# Altium footprint library CONN_HDR_2.54MM_ST_SMD.PcbLib: 27 footprints (part 2 of 2)
Each footprint in its own frame and in the unit in brackets; x right, y up, seen from the top. Pads: shape width x height; smd on the part's side, far side on the other; paste and mask are expansions set on the pad; w line width, h text height; cw(c..) or ccw(c..) is an arc to the next point about the centre after c.
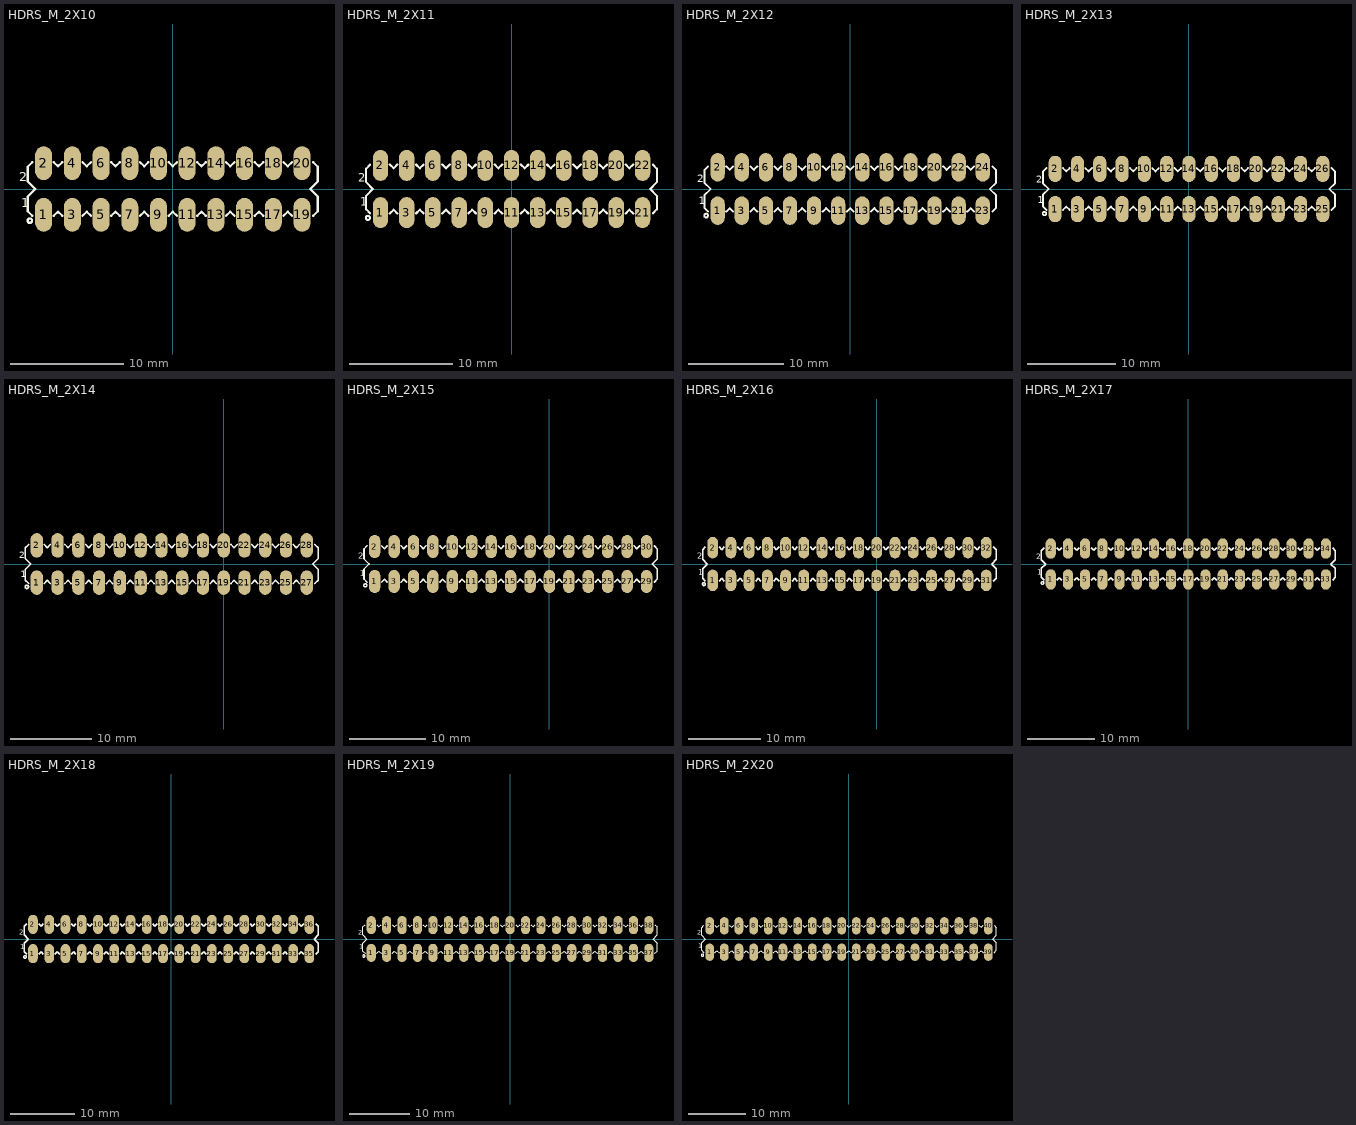
[diagram p1: the footprints below, top view; thin cyan lines are the x and y axes]

## HDRS_M_2X10 [mm] "HEADER, 2.54mm pitch, straight, SMD"
pads (20):
  oval 1.5x3 smd: 1(-11.43,-2.286) 2(-11.43,2.286) 3(-8.89,-2.286) 4(-8.89,2.286) 5(-6.35,-2.286) 6(-6.35,2.286) 7(-3.81,-2.286) 8(-3.81,2.286) 9(-1.27,-2.286) 10(-1.27,2.286) 11(1.27,-2.286) 12(1.27,2.286) 13(3.81,-2.286) 14(3.81,2.286) 15(6.35,-2.286) 16(6.35,2.286) 17(8.89,-2.286) 18(8.89,2.286) 19(11.43,-2.286) 20(11.43,2.286)
Top Overlay:
  circle w0.2: c-12.65,-2.8 r0.2
  lines w0.2: -12.427,-2.378 -12.827,-1.978 -12.827,-0.662 -12.165,0 -12.827,0.662 -12.827,1.978 -12.427,2.378 ; -10.533,-2.378 -10.16,-2.005 -9.787,-2.378 ; -10.533,2.378 -10.16,2.005 -9.787,2.378 ; -7.993,-2.378 -7.62,-2.005 -7.247,-2.378 ; -7.993,2.378 -7.62,2.005 -7.247,2.378 ; -5.453,-2.378 -5.08,-2.005 -4.707,-2.378 ; -5.453,2.378 -5.08,2.005 -4.707,2.378 ; -2.913,-2.378 -2.54,-2.005 -2.167,-2.378 ; -2.913,2.378 -2.54,2.005 -2.167,2.378 ; -0.373,-2.378 0,-2.005 0.373,-2.378 ; -0.373,2.378 0,2.005 0.373,2.378 ; 2.167,-2.378 2.54,-2.005 2.913,-2.378 ; 2.167,2.378 2.54,2.005 2.913,2.378 ; 4.707,-2.378 5.08,-2.005 5.453,-2.378 ; 4.707,2.378 5.08,2.005 5.453,2.378 ; 7.247,-2.378 7.62,-2.005 7.993,-2.378 ; 7.247,2.378 7.62,2.005 7.993,2.378 ; 9.787,-2.378 10.16,-2.005 10.533,-2.378 ; 9.787,2.378 10.16,2.005 10.533,2.378 ; 12.427,-2.378 12.827,-1.978 12.827,-0.662 12.165,0 12.827,0.662 12.827,1.978 12.427,2.378
  text "2" at -13.61,0.7 h0.8
  text "1" at -13.41,-1.6 h0.8
3D body "HEADER2X2SMD.stp": height 9.54, standoff -0.11, extent 0,-3.492 5.08,3.493
3D body "HEADER2X3SMD.stp": height 9.54, standoff -0.11, extent 5.08,-3.492 12.7,3.493
3D body "HEADER2X3SMD.stp": height 9.54, standoff -0.11, extent -7.62,-3.492 0,3.493
3D body "HEADER2X2SMD.stp": height 9.54, standoff -0.11, extent -12.7,-3.492 -7.62,3.493

## HDRS_M_2X11 [mm] "HEADER, 2.54mm pitch, straight, SMD"
pads (22):
  oval 1.5x3 smd: 1(-12.7,-2.286) 2(-12.7,2.286) 3(-10.16,-2.286) 4(-10.16,2.286) 5(-7.62,-2.286) 6(-7.62,2.286) 7(-5.08,-2.286) 8(-5.08,2.286) 9(-2.54,-2.286) 10(-2.54,2.286) 11(0,-2.286) 12(0,2.286) 13(2.54,-2.286) 14(2.54,2.286) 15(5.08,-2.286) 16(5.08,2.286) 17(7.62,-2.286) 18(7.62,2.286) 19(10.16,-2.286) 20(10.16,2.286) 21(12.7,-2.286) 22(12.7,2.286)
Top Overlay:
  circle w0.2: c-13.92,-2.8 r0.2
  lines w0.2: -13.697,-2.378 -14.097,-1.978 -14.097,-0.662 -13.435,0 -14.097,0.662 -14.097,1.978 -13.697,2.378 ; -11.803,-2.378 -11.43,-2.005 -11.057,-2.378 ; -11.803,2.378 -11.43,2.005 -11.057,2.378 ; -9.263,-2.378 -8.89,-2.005 -8.517,-2.378 ; -9.263,2.378 -8.89,2.005 -8.517,2.378 ; -6.723,-2.378 -6.35,-2.005 -5.977,-2.378 ; -6.723,2.378 -6.35,2.005 -5.977,2.378 ; -4.183,-2.378 -3.81,-2.005 -3.437,-2.378 ; -4.183,2.378 -3.81,2.005 -3.437,2.378 ; -1.643,-2.378 -1.27,-2.005 -0.897,-2.378 ; -1.643,2.378 -1.27,2.005 -0.897,2.378 ; 0.897,-2.378 1.27,-2.005 1.643,-2.378 ; 0.897,2.378 1.27,2.005 1.643,2.378 ; 3.437,-2.378 3.81,-2.005 4.183,-2.378 ; 3.437,2.378 3.81,2.005 4.183,2.378 ; 5.977,-2.378 6.35,-2.005 6.723,-2.378 ; 5.977,2.378 6.35,2.005 6.723,2.378 ; 8.517,-2.378 8.89,-2.005 9.263,-2.378 ; 8.517,2.378 8.89,2.005 9.263,2.378 ; 11.057,-2.378 11.43,-2.005 11.803,-2.378 ; 11.057,2.378 11.43,2.005 11.803,2.378 ; 13.697,-2.378 14.097,-1.978 14.097,-0.662 13.435,0 14.097,0.662 14.097,1.978 13.697,2.378
  text "2" at -14.88,0.7 h0.8
  text "1" at -14.68,-1.6 h0.8
3D body "HEADER2X2SMD.stp": height 9.54, standoff -0.11, extent 8.89,-3.492 13.97,3.493
3D body "HEADER2X2SMD.stp": height 9.54, standoff -0.11, extent 3.81,-3.492 8.89,3.493
3D body "HEADER2X2SMD.stp": height 9.54, standoff -0.11, extent -1.27,-3.492 3.81,3.493
3D body "HEADER2X3SMD.stp": height 9.54, standoff -0.11, extent -8.89,-3.492 -1.27,3.493
3D body "HEADER2X2SMD.stp": height 9.54, standoff -0.11, extent -13.97,-3.492 -8.89,3.493

## HDRS_M_2X12 [mm] "HEADER, 2.54mm pitch, straight, SMD"
pads (24):
  oval 1.5x3 smd: 1(-13.97,-2.286) 2(-13.97,2.286) 3(-11.43,-2.286) 4(-11.43,2.286) 5(-8.89,-2.286) 6(-8.89,2.286) 7(-6.35,-2.286) 8(-6.35,2.286) 9(-3.81,-2.286) 10(-3.81,2.286) 11(-1.27,-2.286) 12(-1.27,2.286) 13(1.27,-2.286) 14(1.27,2.286) 15(3.81,-2.286) 16(3.81,2.286) 17(6.35,-2.286) 18(6.35,2.286) 19(8.89,-2.286) 20(8.89,2.286) 21(11.43,-2.286) 22(11.43,2.286) 23(13.97,-2.286) 24(13.97,2.286)
Top Overlay:
  circle w0.2: c-15.19,-2.8 r0.2
  lines w0.2: -14.967,-2.378 -15.367,-1.978 -15.367,-0.662 -14.705,0 -15.367,0.662 -15.367,1.978 -14.967,2.378 ; -13.073,-2.378 -12.7,-2.005 -12.327,-2.378 ; -13.073,2.378 -12.7,2.005 -12.327,2.378 ; -10.533,-2.378 -10.16,-2.005 -9.787,-2.378 ; -10.533,2.378 -10.16,2.005 -9.787,2.378 ; -7.993,-2.378 -7.62,-2.005 -7.247,-2.378 ; -7.993,2.378 -7.62,2.005 -7.247,2.378 ; -5.453,-2.378 -5.08,-2.005 -4.707,-2.378 ; -5.453,2.378 -5.08,2.005 -4.707,2.378 ; -2.913,-2.378 -2.54,-2.005 -2.167,-2.378 ; -2.913,2.378 -2.54,2.005 -2.167,2.378 ; -0.373,-2.378 0,-2.005 0.373,-2.378 ; -0.373,2.378 0,2.005 0.373,2.378 ; 2.167,-2.378 2.54,-2.005 2.913,-2.378 ; 2.167,2.378 2.54,2.005 2.913,2.378 ; 4.707,-2.378 5.08,-2.005 5.453,-2.378 ; 4.707,2.378 5.08,2.005 5.453,2.378 ; 7.247,-2.378 7.62,-2.005 7.993,-2.378 ; 7.247,2.378 7.62,2.005 7.993,2.378 ; 9.787,-2.378 10.16,-2.005 10.533,-2.378 ; 9.787,2.378 10.16,2.005 10.533,2.378 ; 12.327,-2.378 12.7,-2.005 13.073,-2.378 ; 12.327,2.378 12.7,2.005 13.073,2.378 ; 14.967,-2.378 15.367,-1.978 15.367,-0.662 14.705,0 15.367,0.662 15.367,1.978 14.967,2.378
  text "1" at -15.95,-1.6 h0.8
  text "2" at -16.15,0.7 h0.8
3D body "HEADER2X2SMD.stp": height 9.54, standoff -0.11, extent 10.16,-3.492 15.24,3.493
3D body "HEADER2X2SMD.stp": height 9.54, standoff -0.11, extent -2.54,-3.492 2.54,3.493
3D body "HEADER2X3SMD.stp": height 9.54, standoff -0.11, extent 2.54,-3.492 10.16,3.493
3D body "HEADER2X3SMD.stp": height 9.54, standoff -0.11, extent -10.16,-3.492 -2.54,3.493
3D body "HEADER2X2SMD.stp": height 9.54, standoff -0.11, extent -15.24,-3.492 -10.16,3.493

## HDRS_M_2X13 [mm] "HEADER, 2.54mm pitch, straight, SMD"
pads (26):
  oval 1.5x3 smd paste-0.2: 1(-15.24,-2.286) 2(-15.24,2.286) 3(-12.7,-2.286) 4(-12.7,2.286) 5(-10.16,-2.286) 6(-10.16,2.286) 7(-7.62,-2.286) 8(-7.62,2.286) 9(-5.08,-2.286) 10(-5.08,2.286) 11(-2.54,-2.286) 12(-2.54,2.286) 13(0,-2.286) 14(0,2.286) 15(2.54,-2.286) 16(2.54,2.286) 17(5.08,-2.286) 18(5.08,2.286) 19(7.62,-2.286) 20(7.62,2.286) 21(10.16,-2.286) 22(10.16,2.286) 23(12.7,-2.286) 24(12.7,2.286) 25(15.24,-2.286) 26(15.24,2.286)
Top Overlay:
  circle w0.2: c-16.46,-2.8 r0.2
  lines w0.2: -16.237,-2.378 -16.637,-1.978 -16.637,-0.662 -15.975,0 -16.637,0.662 -16.637,1.978 -16.237,2.378 ; -14.343,-2.378 -13.97,-2.005 -13.597,-2.378 ; -14.343,2.378 -13.97,2.005 -13.597,2.378 ; -11.803,-2.378 -11.43,-2.005 -11.057,-2.378 ; -11.803,2.378 -11.43,2.005 -11.057,2.378 ; -9.263,-2.378 -8.89,-2.005 -8.517,-2.378 ; -9.263,2.378 -8.89,2.005 -8.517,2.378 ; -6.723,-2.378 -6.35,-2.005 -5.977,-2.378 ; -6.723,2.378 -6.35,2.005 -5.977,2.378 ; -4.183,-2.378 -3.81,-2.005 -3.437,-2.378 ; -4.183,2.378 -3.81,2.005 -3.437,2.378 ; -1.643,-2.378 -1.27,-2.005 -0.897,-2.378 ; -1.643,2.378 -1.27,2.005 -0.897,2.378 ; 0.897,-2.378 1.27,-2.005 1.643,-2.378 ; 0.897,2.378 1.27,2.005 1.643,2.378 ; 3.437,-2.378 3.81,-2.005 4.183,-2.378 ; 3.437,2.378 3.81,2.005 4.183,2.378 ; 5.977,-2.378 6.35,-2.005 6.723,-2.378 ; 5.977,2.378 6.35,2.005 6.723,2.378 ; 8.517,-2.378 8.89,-2.005 9.263,-2.378 ; 8.517,2.378 8.89,2.005 9.263,2.378 ; 11.057,-2.378 11.43,-2.005 11.803,-2.378 ; 11.057,2.378 11.43,2.005 11.803,2.378 ; 13.597,-2.378 13.97,-2.005 14.343,-2.378 ; 13.597,2.378 13.97,2.005 14.343,2.378 ; 16.237,-2.378 16.637,-1.978 16.637,-0.662 15.975,0 16.637,0.662 16.637,1.978 16.237,2.378
  text "2" at -17.42,0.7 h0.8
  text "1" at -17.22,-1.6 h0.8
3D body "HEADER2X3SMD.stp": height 9.54, standoff -0.11, extent 8.89,-3.492 16.51,3.493
3D body "HEADER2X2SMD.stp": height 9.54, standoff -0.11, extent -3.81,-3.492 1.27,3.493
3D body "HEADER2X3SMD.stp": height 9.54, standoff -0.11, extent 1.27,-3.492 8.89,3.493
3D body "HEADER2X3SMD.stp": height 9.54, standoff -0.11, extent -11.43,-3.492 -3.81,3.493
3D body "HEADER2X2SMD.stp": height 9.54, standoff -0.11, extent -16.51,-3.492 -11.43,3.493

## HDRS_M_2X14 [mm] "HEADER, 2.54mm pitch, straight, SMD"
pads (28):
  oval 1.5x3 smd: 1(-22.86,-2.286) 2(-22.86,2.286) 3(-20.32,-2.286) 4(-20.32,2.286) 5(-17.78,-2.286) 6(-17.78,2.286) 7(-15.24,-2.286) 8(-15.24,2.286) 9(-12.7,-2.286) 10(-12.7,2.286) 11(-10.16,-2.286) 12(-10.16,2.286) 13(-7.62,-2.286) 14(-7.62,2.286) 15(-5.08,-2.286) 16(-5.08,2.286) 17(-2.54,-2.286) 18(-2.54,2.286) 19(0,-2.286) 20(0,2.286) 21(2.54,-2.286) 22(2.54,2.286) 23(5.08,-2.286) 24(5.08,2.286) 25(7.62,-2.286) 26(7.62,2.286) 27(10.16,-2.286) 28(10.16,2.286)
Top Overlay:
  circle w0.2: c-24.08,-2.8 r0.2
  lines w0.2: -23.857,-2.378 -24.257,-1.978 -24.257,-0.662 -23.595,0 -24.257,0.662 -24.257,1.978 -23.857,2.378 ; -21.963,-2.378 -21.59,-2.005 -21.217,-2.378 ; -21.963,2.378 -21.59,2.005 -21.217,2.378 ; -19.423,-2.378 -19.05,-2.005 -18.677,-2.378 ; -19.423,2.378 -19.05,2.005 -18.677,2.378 ; -16.883,-2.378 -16.51,-2.005 -16.137,-2.378 ; -16.883,2.378 -16.51,2.005 -16.137,2.378 ; -14.343,-2.378 -13.97,-2.005 -13.597,-2.378 ; -14.343,2.378 -13.97,2.005 -13.597,2.378 ; -11.803,-2.378 -11.43,-2.005 -11.057,-2.378 ; -11.803,2.378 -11.43,2.005 -11.057,2.378 ; -9.263,-2.378 -8.89,-2.005 -8.517,-2.378 ; -9.263,2.378 -8.89,2.005 -8.517,2.378 ; -6.723,-2.378 -6.35,-2.005 -5.977,-2.378 ; -6.723,2.378 -6.35,2.005 -5.977,2.378 ; -4.183,-2.378 -3.81,-2.005 -3.437,-2.378 ; -4.183,2.378 -3.81,2.005 -3.437,2.378 ; -1.643,-2.378 -1.27,-2.005 -0.897,-2.378 ; -1.643,2.378 -1.27,2.005 -0.897,2.378 ; 0.897,-2.378 1.27,-2.005 1.643,-2.378 ; 0.897,2.378 1.27,2.005 1.643,2.378 ; 3.437,-2.378 3.81,-2.005 4.183,-2.378 ; 3.437,2.378 3.81,2.005 4.183,2.378 ; 5.977,-2.378 6.35,-2.005 6.723,-2.378 ; 5.977,2.378 6.35,2.005 6.723,2.378 ; 8.517,-2.378 8.89,-2.005 9.263,-2.378 ; 8.517,2.378 8.89,2.005 9.263,2.378 ; 11.157,-2.378 11.557,-1.978 11.557,-0.662 10.895,0 11.557,0.662 11.557,1.978 11.157,2.378
  text "2" at -25.04,0.7 h0.8
  text "1" at -24.84,-1.6 h0.8
3D body "HEADER2X2SMD.stp": height 9.54, standoff -0.11, extent 6.35,-3.492 11.43,3.493
3D body "HEADER2X2SMD.stp": height 9.54, standoff -0.11, extent 1.27,-3.492 6.35,3.493
3D body "HEADER2X2SMD.stp": height 9.54, standoff -0.11, extent -11.43,-3.492 -6.35,3.493
3D body "HEADER2X3SMD.stp": height 9.54, standoff -0.11, extent -6.35,-3.492 1.27,3.493
3D body "HEADER2X3SMD.stp": height 9.54, standoff -0.11, extent -19.05,-3.492 -11.43,3.493
3D body "HEADER2X2SMD.stp": height 9.54, standoff -0.11, extent -24.13,-3.492 -19.05,3.493

## HDRS_M_2X15 [mm] "HEADER, 2.54mm pitch, straight, SMD"
pads (30):
  oval 1.5x3 smd: 1(-22.86,-2.286) 2(-22.86,2.286) 3(-20.32,-2.286) 4(-20.32,2.286) 5(-17.78,-2.286) 6(-17.78,2.286) 7(-15.24,-2.286) 8(-15.24,2.286) 9(-12.7,-2.286) 10(-12.7,2.286) 11(-10.16,-2.286) 12(-10.16,2.286) 13(-7.62,-2.286) 14(-7.62,2.286) 15(-5.08,-2.286) 16(-5.08,2.286) 17(-2.54,-2.286) 18(-2.54,2.286) 19(0,-2.286) 20(0,2.286) 21(2.54,-2.286) 22(2.54,2.286) 23(5.08,-2.286) 24(5.08,2.286) 25(7.62,-2.286) 26(7.62,2.286) 27(10.16,-2.286) 28(10.16,2.286) 29(12.7,-2.286) 30(12.7,2.286)
Top Overlay:
  circle w0.2: c-24.08,-2.8 r0.2
  lines w0.2: -23.857,-2.378 -24.257,-1.978 -24.257,-0.662 -23.595,0 -24.257,0.662 -24.257,1.978 -23.857,2.378 ; -21.963,-2.378 -21.59,-2.005 -21.217,-2.378 ; -21.963,2.378 -21.59,2.005 -21.217,2.378 ; -19.423,-2.378 -19.05,-2.005 -18.677,-2.378 ; -19.423,2.378 -19.05,2.005 -18.677,2.378 ; -16.883,-2.378 -16.51,-2.005 -16.137,-2.378 ; -16.883,2.378 -16.51,2.005 -16.137,2.378 ; -14.343,-2.378 -13.97,-2.005 -13.597,-2.378 ; -14.343,2.378 -13.97,2.005 -13.597,2.378 ; -11.803,-2.378 -11.43,-2.005 -11.057,-2.378 ; -11.803,2.378 -11.43,2.005 -11.057,2.378 ; -9.263,-2.378 -8.89,-2.005 -8.517,-2.378 ; -9.263,2.378 -8.89,2.005 -8.517,2.378 ; -6.723,-2.378 -6.35,-2.005 -5.977,-2.378 ; -6.723,2.378 -6.35,2.005 -5.977,2.378 ; -4.183,-2.378 -3.81,-2.005 -3.437,-2.378 ; -4.183,2.378 -3.81,2.005 -3.437,2.378 ; -1.643,-2.378 -1.27,-2.005 -0.897,-2.378 ; -1.643,2.378 -1.27,2.005 -0.897,2.378 ; 0.897,-2.378 1.27,-2.005 1.643,-2.378 ; 0.897,2.378 1.27,2.005 1.643,2.378 ; 3.437,-2.378 3.81,-2.005 4.183,-2.378 ; 3.437,2.378 3.81,2.005 4.183,2.378 ; 5.977,-2.378 6.35,-2.005 6.723,-2.378 ; 5.977,2.378 6.35,2.005 6.723,2.378 ; 8.517,-2.378 8.89,-2.005 9.263,-2.378 ; 8.517,2.378 8.89,2.005 9.263,2.378 ; 11.057,-2.378 11.43,-2.005 11.803,-2.378 ; 11.057,2.378 11.43,2.005 11.803,2.378 ; 13.697,-2.378 14.097,-1.978 14.097,-0.662 13.435,0 14.097,0.662 14.097,1.978 13.697,2.378
  text "2" at -25.04,0.7 h0.8
  text "1" at -24.84,-1.6 h0.8
3D body "HEADER2X2SMD.stp": height 9.54, standoff -0.11, extent 1.27,-3.492 6.35,3.493
3D body "HEADER2X3SMD.stp": height 9.54, standoff -0.11, extent 6.35,-3.492 13.97,3.493
3D body "HEADER2X2SMD.stp": height 9.54, standoff -0.11, extent -11.43,-3.492 -6.35,3.493
3D body "HEADER2X3SMD.stp": height 9.54, standoff -0.11, extent -6.35,-3.492 1.27,3.493
3D body "HEADER2X3SMD.stp": height 9.54, standoff -0.11, extent -19.05,-3.492 -11.43,3.493
3D body "HEADER2X2SMD.stp": height 9.54, standoff -0.11, extent -24.13,-3.492 -19.05,3.493

## HDRS_M_2X16 [mm] "HEADER, 2.54mm pitch, straight, SMD"
pads (32):
  oval 1.5x3 smd: 1(-22.86,-2.286) 2(-22.86,2.286) 3(-20.32,-2.286) 4(-20.32,2.286) 5(-17.78,-2.286) 6(-17.78,2.286) 7(-15.24,-2.286) 8(-15.24,2.286) 9(-12.7,-2.286) 10(-12.7,2.286) 11(-10.16,-2.286) 12(-10.16,2.286) 13(-7.62,-2.286) 14(-7.62,2.286) 15(-5.08,-2.286) 16(-5.08,2.286) 17(-2.54,-2.286) 18(-2.54,2.286) 19(0,-2.286) 20(0,2.286) 21(2.54,-2.286) 22(2.54,2.286) 23(5.08,-2.286) 24(5.08,2.286) 25(7.62,-2.286) 26(7.62,2.286) 27(10.16,-2.286) 28(10.16,2.286) 29(12.7,-2.286) 30(12.7,2.286) 31(15.24,-2.286) 32(15.24,2.286)
Top Overlay:
  circle w0.2: c-24.08,-2.8 r0.2
  lines w0.2: -23.857,-2.378 -24.257,-1.978 -24.257,-0.662 -23.595,0 -24.257,0.662 -24.257,1.978 -23.857,2.378 ; -21.963,-2.378 -21.59,-2.005 -21.217,-2.378 ; -21.963,2.378 -21.59,2.005 -21.217,2.378 ; -19.423,-2.378 -19.05,-2.005 -18.677,-2.378 ; -19.423,2.378 -19.05,2.005 -18.677,2.378 ; -16.883,-2.378 -16.51,-2.005 -16.137,-2.378 ; -16.883,2.378 -16.51,2.005 -16.137,2.378 ; -14.343,-2.378 -13.97,-2.005 -13.597,-2.378 ; -14.343,2.378 -13.97,2.005 -13.597,2.378 ; -11.803,-2.378 -11.43,-2.005 -11.057,-2.378 ; -11.803,2.378 -11.43,2.005 -11.057,2.378 ; -9.263,-2.378 -8.89,-2.005 -8.517,-2.378 ; -9.263,2.378 -8.89,2.005 -8.517,2.378 ; -6.723,-2.378 -6.35,-2.005 -5.977,-2.378 ; -6.723,2.378 -6.35,2.005 -5.977,2.378 ; -4.183,-2.378 -3.81,-2.005 -3.437,-2.378 ; -4.183,2.378 -3.81,2.005 -3.437,2.378 ; -1.643,-2.378 -1.27,-2.005 -0.897,-2.378 ; -1.643,2.378 -1.27,2.005 -0.897,2.378 ; 0.897,-2.378 1.27,-2.005 1.643,-2.378 ; 0.897,2.378 1.27,2.005 1.643,2.378 ; 3.437,-2.378 3.81,-2.005 4.183,-2.378 ; 3.437,2.378 3.81,2.005 4.183,2.378 ; 5.977,-2.378 6.35,-2.005 6.723,-2.378 ; 5.977,2.378 6.35,2.005 6.723,2.378 ; 8.517,-2.378 8.89,-2.005 9.263,-2.378 ; 8.517,2.378 8.89,2.005 9.263,2.378 ; 11.057,-2.378 11.43,-2.005 11.803,-2.378 ; 11.057,2.378 11.43,2.005 11.803,2.378 ; 13.597,-2.378 13.97,-2.005 14.343,-2.378 ; 13.597,2.378 13.97,2.005 14.343,2.378 ; 16.237,-2.378 16.637,-1.978 16.637,-0.662 15.975,0 16.637,0.662 16.637,1.978 16.237,2.378
  text "2" at -25.04,0.7 h0.8
  text "1" at -24.84,-1.6 h0.8
3D body "HEADER2X2SMD.stp": height 9.54, standoff -0.11, extent 11.43,-3.492 16.51,3.493
3D body "HEADER2X2SMD.stp": height 9.54, standoff -0.11, extent 6.35,-3.492 11.43,3.493
3D body "HEADER2X2SMD.stp": height 9.54, standoff -0.11, extent -24.13,-3.492 -19.05,3.493
3D body "HEADER2X3SMD.stp": height 9.54, standoff -0.11, extent -19.05,-3.492 -11.43,3.493
3D body "HEADER2X3SMD.stp": height 9.54, standoff -0.11, extent -6.35,-3.492 1.27,3.493
3D body "HEADER2X2SMD.stp": height 9.54, standoff -0.11, extent -11.43,-3.492 -6.35,3.493
3D body "HEADER2X2SMD.stp": height 9.54, standoff -0.11, extent 1.27,-3.492 6.35,3.493

## HDRS_M_2X17 [mm] "HEADER, 2.54mm pitch, straight, SMD"
pads (34):
  oval 1.5x3 smd: 1(-20.32,-2.286) 2(-20.32,2.286) 3(-17.78,-2.286) 4(-17.78,2.286) 5(-15.24,-2.286) 6(-15.24,2.286) 7(-12.7,-2.286) 8(-12.7,2.286) 9(-10.16,-2.286) 10(-10.16,2.286) 11(-7.62,-2.286) 12(-7.62,2.286) 13(-5.08,-2.286) 14(-5.08,2.286) 15(-2.54,-2.286) 16(-2.54,2.286) 17(0,-2.286) 18(0,2.286) 19(2.54,-2.286) 20(2.54,2.286) 21(5.08,-2.286) 22(5.08,2.286) 23(7.62,-2.286) 24(7.62,2.286) 25(10.16,-2.286) 26(10.16,2.286) 27(12.7,-2.286) 28(12.7,2.286) 29(15.24,-2.286) 30(15.24,2.286) 31(17.78,-2.286) 32(17.78,2.286) 33(20.32,-2.286) 34(20.32,2.286)
Top Overlay:
  circle w0.2: c-21.54,-2.8 r0.2
  lines w0.2: -21.317,-2.378 -21.717,-1.978 -21.717,-0.662 -21.055,0 -21.717,0.662 -21.717,1.978 -21.317,2.378 ; -19.423,-2.378 -19.05,-2.005 -18.677,-2.378 ; -19.423,2.378 -19.05,2.005 -18.677,2.378 ; -16.883,-2.378 -16.51,-2.005 -16.137,-2.378 ; -16.883,2.378 -16.51,2.005 -16.137,2.378 ; -14.343,-2.378 -13.97,-2.005 -13.597,-2.378 ; -14.343,2.378 -13.97,2.005 -13.597,2.378 ; -11.803,-2.378 -11.43,-2.005 -11.057,-2.378 ; -11.803,2.378 -11.43,2.005 -11.057,2.378 ; -9.263,-2.378 -8.89,-2.005 -8.517,-2.378 ; -9.263,2.378 -8.89,2.005 -8.517,2.378 ; -6.723,-2.378 -6.35,-2.005 -5.977,-2.378 ; -6.723,2.378 -6.35,2.005 -5.977,2.378 ; -4.183,-2.378 -3.81,-2.005 -3.437,-2.378 ; -4.183,2.378 -3.81,2.005 -3.437,2.378 ; -1.643,-2.378 -1.27,-2.005 -0.897,-2.378 ; -1.643,2.378 -1.27,2.005 -0.897,2.378 ; 0.897,-2.378 1.27,-2.005 1.643,-2.378 ; 0.897,2.378 1.27,2.005 1.643,2.378 ; 3.437,-2.378 3.81,-2.005 4.183,-2.378 ; 3.437,2.378 3.81,2.005 4.183,2.378 ; 5.977,-2.378 6.35,-2.005 6.723,-2.378 ; 5.977,2.378 6.35,2.005 6.723,2.378 ; 8.517,-2.378 8.89,-2.005 9.263,-2.378 ; 8.517,2.378 8.89,2.005 9.263,2.378 ; 11.057,-2.378 11.43,-2.005 11.803,-2.378 ; 11.057,2.378 11.43,2.005 11.803,2.378 ; 13.597,-2.378 13.97,-2.005 14.343,-2.378 ; 13.597,2.378 13.97,2.005 14.343,2.378 ; 16.137,-2.378 16.51,-2.005 16.883,-2.378 ; 16.137,2.378 16.51,2.005 16.883,2.378 ; 18.677,-2.378 19.05,-2.005 19.423,-2.378 ; 18.677,2.378 19.05,2.005 19.423,2.378 ; 21.317,-2.378 21.717,-1.978 21.717,-0.662 21.055,0 21.717,0.662 21.717,1.978 21.317,2.378
  text "2" at -22.5,0.7 h0.8
  text "1" at -22.3,-1.6 h0.8
3D body "HEADER2X2SMD.stp": height 9.54, standoff -0.11, extent -21.59,-3.492 -16.51,3.493
3D body "HEADER2X3SMD.stp": height 9.54, standoff -0.11, extent -16.51,-3.492 -8.89,3.493
3D body "HEADER2X3SMD.stp": height 9.54, standoff -0.11, extent -3.81,-3.492 3.81,3.493
3D body "HEADER2X2SMD.stp": height 9.54, standoff -0.11, extent -8.89,-3.492 -3.81,3.493
3D body "HEADER2X3SMD.stp": height 9.54, standoff -0.11, extent 8.89,-3.492 16.51,3.493
3D body "HEADER2X2SMD.stp": height 9.54, standoff -0.11, extent 3.81,-3.492 8.89,3.493
3D body "HEADER2X2SMD.stp": height 9.54, standoff -0.11, extent 16.51,-3.492 21.59,3.493

## HDRS_M_2X18 [mm] "HEADER, 2.54mm pitch, straight, SMD"
pads (36):
  oval 1.5x3 smd: 1(-21.59,-2.286) 2(-21.59,2.286) 3(-19.05,-2.286) 4(-19.05,2.286) 5(-16.51,-2.286) 6(-16.51,2.286) 7(-13.97,-2.286) 8(-13.97,2.286) 9(-11.43,-2.286) 10(-11.43,2.286) 11(-8.89,-2.286) 12(-8.89,2.286) 13(-6.35,-2.286) 14(-6.35,2.286) 15(-3.81,-2.286) 16(-3.81,2.286) 17(-1.27,-2.286) 18(-1.27,2.286) 19(1.27,-2.286) 20(1.27,2.286) 21(3.81,-2.286) 22(3.81,2.286) 23(6.35,-2.286) 24(6.35,2.286) 25(8.89,-2.286) 26(8.89,2.286) 27(11.43,-2.286) 28(11.43,2.286) 29(13.97,-2.286) 30(13.97,2.286) 31(16.51,-2.286) 32(16.51,2.286) 33(19.05,-2.286) 34(19.05,2.286) 35(21.59,-2.286) 36(21.59,2.286)
Top Overlay:
  circle w0.2: c-22.81,-2.8 r0.2
  lines w0.2: -22.587,-2.378 -22.987,-1.978 -22.987,-0.662 -22.325,0 -22.987,0.662 -22.987,1.978 -22.587,2.378 ; -20.693,-2.378 -20.32,-2.005 -19.947,-2.378 ; -20.693,2.378 -20.32,2.005 -19.947,2.378 ; -18.153,-2.378 -17.78,-2.005 -17.407,-2.378 ; -18.153,2.378 -17.78,2.005 -17.407,2.378 ; -15.613,-2.378 -15.24,-2.005 -14.867,-2.378 ; -15.613,2.378 -15.24,2.005 -14.867,2.378 ; -13.073,-2.378 -12.7,-2.005 -12.327,-2.378 ; -13.073,2.378 -12.7,2.005 -12.327,2.378 ; -10.533,-2.378 -10.16,-2.005 -9.787,-2.378 ; -10.533,2.378 -10.16,2.005 -9.787,2.378 ; -7.993,-2.378 -7.62,-2.005 -7.247,-2.378 ; -7.993,2.378 -7.62,2.005 -7.247,2.378 ; -5.453,-2.378 -5.08,-2.005 -4.707,-2.378 ; -5.453,2.378 -5.08,2.005 -4.707,2.378 ; -2.913,-2.378 -2.54,-2.005 -2.167,-2.378 ; -2.913,2.378 -2.54,2.005 -2.167,2.378 ; -0.373,-2.378 0,-2.005 0.373,-2.378 ; -0.373,2.378 0,2.005 0.373,2.378 ; 2.167,-2.378 2.54,-2.005 2.913,-2.378 ; 2.167,2.378 2.54,2.005 2.913,2.378 ; 4.707,-2.378 5.08,-2.005 5.453,-2.378 ; 4.707,2.378 5.08,2.005 5.453,2.378 ; 7.247,-2.378 7.62,-2.005 7.993,-2.378 ; 7.247,2.378 7.62,2.005 7.993,2.378 ; 9.787,-2.378 10.16,-2.005 10.533,-2.378 ; 9.787,2.378 10.16,2.005 10.533,2.378 ; 12.327,-2.378 12.7,-2.005 13.073,-2.378 ; 12.327,2.378 12.7,2.005 13.073,2.378 ; 14.867,-2.378 15.24,-2.005 15.613,-2.378 ; 14.867,2.378 15.24,2.005 15.613,2.378 ; 17.407,-2.378 17.78,-2.005 18.153,-2.378 ; 17.407,2.378 17.78,2.005 18.153,2.378 ; 19.947,-2.378 20.32,-2.005 20.693,-2.378 ; 19.947,2.378 20.32,2.005 20.693,2.378 ; 22.587,-2.378 22.987,-1.978 22.987,-0.662 22.325,0 22.987,0.662 22.987,1.978 22.587,2.378
  text "2" at -23.77,0.7 h0.8
  text "1" at -23.57,-1.6 h0.8
3D body "HEADER2X2SMD.stp": height 9.54, standoff -0.11, extent 2.54,-3.492 7.62,3.493
3D body "HEADER2X3SMD.stp": height 9.54, standoff -0.11, extent 7.62,-3.492 15.24,3.493
3D body "HEADER2X2SMD.stp": height 9.54, standoff -0.11, extent -10.16,-3.492 -5.08,3.493
3D body "HEADER2X3SMD.stp": height 9.54, standoff -0.11, extent -5.08,-3.492 2.54,3.493
3D body "HEADER2X3SMD.stp": height 9.54, standoff -0.11, extent -17.78,-3.492 -10.16,3.493
3D body "HEADER2X2SMD.stp": height 9.54, standoff -0.11, extent -22.86,-3.492 -17.78,3.493
3D body "HEADER2X3SMD.stp": height 9.54, standoff -0.11, extent 15.24,-3.492 22.86,3.493

## HDRS_M_2X19 [mm] "HEADER, 2.54mm pitch, straight, SMD"
pads (38):
  oval 1.5x3 smd: 1(-22.86,-2.286) 2(-22.86,2.286) 3(-20.32,-2.286) 4(-20.32,2.286) 5(-17.78,-2.286) 6(-17.78,2.286) 7(-15.24,-2.286) 8(-15.24,2.286) 9(-12.7,-2.286) 10(-12.7,2.286) 11(-10.16,-2.286) 12(-10.16,2.286) 13(-7.62,-2.286) 14(-7.62,2.286) 15(-5.08,-2.286) 16(-5.08,2.286) 17(-2.54,-2.286) 18(-2.54,2.286) 19(0,-2.286) 20(0,2.286) 21(2.54,-2.286) 22(2.54,2.286) 23(5.08,-2.286) 24(5.08,2.286) 25(7.62,-2.286) 26(7.62,2.286) 27(10.16,-2.286) 28(10.16,2.286) 29(12.7,-2.286) 30(12.7,2.286) 31(15.24,-2.286) 32(15.24,2.286) 33(17.78,-2.286) 34(17.78,2.286) 35(20.32,-2.286) 36(20.32,2.286) 37(22.86,-2.286) 38(22.86,2.286)
Top Overlay:
  circle w0.2: c-24.08,-2.8 r0.2
  lines w0.2: -23.857,-2.378 -24.257,-1.978 -24.257,-0.662 -23.595,0 -24.257,0.662 -24.257,1.978 -23.857,2.378 ; -21.963,-2.378 -21.59,-2.005 -21.217,-2.378 ; -21.963,2.378 -21.59,2.005 -21.217,2.378 ; -19.423,-2.378 -19.05,-2.005 -18.677,-2.378 ; -19.423,2.378 -19.05,2.005 -18.677,2.378 ; -16.883,-2.378 -16.51,-2.005 -16.137,-2.378 ; -16.883,2.378 -16.51,2.005 -16.137,2.378 ; -14.343,-2.378 -13.97,-2.005 -13.597,-2.378 ; -14.343,2.378 -13.97,2.005 -13.597,2.378 ; -11.803,-2.378 -11.43,-2.005 -11.057,-2.378 ; -11.803,2.378 -11.43,2.005 -11.057,2.378 ; -9.263,-2.378 -8.89,-2.005 -8.517,-2.378 ; -9.263,2.378 -8.89,2.005 -8.517,2.378 ; -6.723,-2.378 -6.35,-2.005 -5.977,-2.378 ; -6.723,2.378 -6.35,2.005 -5.977,2.378 ; -4.183,-2.378 -3.81,-2.005 -3.437,-2.378 ; -4.183,2.378 -3.81,2.005 -3.437,2.378 ; -1.643,-2.378 -1.27,-2.005 -0.897,-2.378 ; -1.643,2.378 -1.27,2.005 -0.897,2.378 ; 0.897,-2.378 1.27,-2.005 1.643,-2.378 ; 0.897,2.378 1.27,2.005 1.643,2.378 ; 3.437,-2.378 3.81,-2.005 4.183,-2.378 ; 3.437,2.378 3.81,2.005 4.183,2.378 ; 5.977,-2.378 6.35,-2.005 6.723,-2.378 ; 5.977,2.378 6.35,2.005 6.723,2.378 ; 8.517,-2.378 8.89,-2.005 9.263,-2.378 ; 8.517,2.378 8.89,2.005 9.263,2.378 ; 11.057,-2.378 11.43,-2.005 11.803,-2.378 ; 11.057,2.378 11.43,2.005 11.803,2.378 ; 13.597,-2.378 13.97,-2.005 14.343,-2.378 ; 13.597,2.378 13.97,2.005 14.343,2.378 ; 16.137,-2.378 16.51,-2.005 16.883,-2.378 ; 16.137,2.378 16.51,2.005 16.883,2.378 ; 18.677,-2.378 19.05,-2.005 19.423,-2.378 ; 18.677,2.378 19.05,2.005 19.423,2.378 ; 21.217,-2.378 21.59,-2.005 21.963,-2.378 ; 21.217,2.378 21.59,2.005 21.963,2.378 ; 23.857,-2.378 24.257,-1.978 24.257,-0.662 23.595,0 24.257,0.662 24.257,1.978 23.857,2.378
  text "2" at -25.04,0.7 h0.8
  text "1" at -24.84,-1.6 h0.8
3D body "HEADER2X2SMD.stp": height 9.54, standoff -0.11, extent 19.05,-3.492 24.13,3.493
3D body "HEADER2X2SMD.stp": height 9.54, standoff -0.11, extent -24.13,-3.492 -19.05,3.493
3D body "HEADER2X3SMD.stp": height 9.54, standoff -0.11, extent -19.05,-3.492 -11.43,3.493
3D body "HEADER2X3SMD.stp": height 9.54, standoff -0.11, extent -6.35,-3.492 1.27,3.493
3D body "HEADER2X2SMD.stp": height 9.54, standoff -0.11, extent -11.43,-3.492 -6.35,3.493
3D body "HEADER2X3SMD.stp": height 9.54, standoff -0.11, extent 6.35,-3.492 13.97,3.493
3D body "HEADER2X2SMD.stp": height 9.54, standoff -0.11, extent 1.27,-3.492 6.35,3.493
3D body "HEADER2X2SMD.stp": height 9.54, standoff -0.11, extent 13.97,-3.492 19.05,3.493

## HDRS_M_2X20 [mm] "HEADER, 2.54mm pitch, straight, SMD"
pads (40):
  oval 1.5x3 smd: 1(-24.13,-2.286) 2(-24.13,2.286) 3(-21.59,-2.286) 4(-21.59,2.286) 5(-19.05,-2.286) 6(-19.05,2.286) 7(-16.51,-2.286) 8(-16.51,2.286) 9(-13.97,-2.286) 10(-13.97,2.286) 11(-11.43,-2.286) 12(-11.43,2.286) 13(-8.89,-2.286) 14(-8.89,2.286) 15(-6.35,-2.286) 16(-6.35,2.286) 17(-3.81,-2.286) 18(-3.81,2.286) 19(-1.27,-2.286) 20(-1.27,2.286) 21(1.27,-2.286) 22(1.27,2.286) 23(3.81,-2.286) 24(3.81,2.286) 25(6.35,-2.286) 26(6.35,2.286) 27(8.89,-2.286) 28(8.89,2.286) 29(11.43,-2.286) 30(11.43,2.286) 31(13.97,-2.286) 32(13.97,2.286) 33(16.51,-2.286) 34(16.51,2.286) 35(19.05,-2.286) 36(19.05,2.286) 37(21.59,-2.286) 38(21.59,2.286) 39(24.13,-2.286) 40(24.13,2.286)
Top Overlay:
  circle w0.2: c-25.35,-2.8 r0.2
  lines w0.2: -25.127,-2.378 -25.527,-1.978 -25.527,-0.662 -24.865,0 -25.527,0.662 -25.527,1.978 -25.127,2.378 ; -23.233,-2.378 -22.86,-2.005 -22.487,-2.378 ; -23.233,2.378 -22.86,2.005 -22.487,2.378 ; -20.693,-2.378 -20.32,-2.005 -19.947,-2.378 ; -20.693,2.378 -20.32,2.005 -19.947,2.378 ; -18.153,-2.378 -17.78,-2.005 -17.407,-2.378 ; -18.153,2.378 -17.78,2.005 -17.407,2.378 ; -15.613,-2.378 -15.24,-2.005 -14.867,-2.378 ; -15.613,2.378 -15.24,2.005 -14.867,2.378 ; -13.073,-2.378 -12.7,-2.005 -12.327,-2.378 ; -13.073,2.378 -12.7,2.005 -12.327,2.378 ; -10.533,-2.378 -10.16,-2.005 -9.787,-2.378 ; -10.533,2.378 -10.16,2.005 -9.787,2.378 ; -7.993,-2.378 -7.62,-2.005 -7.247,-2.378 ; -7.993,2.378 -7.62,2.005 -7.247,2.378 ; -5.453,-2.378 -5.08,-2.005 -4.707,-2.378 ; -5.453,2.378 -5.08,2.005 -4.707,2.378 ; -2.913,-2.378 -2.54,-2.005 -2.167,-2.378 ; -2.913,2.378 -2.54,2.005 -2.167,2.378 ; -0.373,-2.378 0,-2.005 0.373,-2.378 ; -0.373,2.378 0,2.005 0.373,2.378 ; 2.167,-2.378 2.54,-2.005 2.913,-2.378 ; 2.167,2.378 2.54,2.005 2.913,2.378 ; 4.707,-2.378 5.08,-2.005 5.453,-2.378 ; 4.707,2.378 5.08,2.005 5.453,2.378 ; 7.247,-2.378 7.62,-2.005 7.993,-2.378 ; 7.247,2.378 7.62,2.005 7.993,2.378 ; 9.787,-2.378 10.16,-2.005 10.533,-2.378 ; 9.787,2.378 10.16,2.005 10.533,2.378 ; 12.327,-2.378 12.7,-2.005 13.073,-2.378 ; 12.327,2.378 12.7,2.005 13.073,2.378 ; 14.867,-2.378 15.24,-2.005 15.613,-2.378 ; 14.867,2.378 15.24,2.005 15.613,2.378 ; 17.407,-2.378 17.78,-2.005 18.153,-2.378 ; 17.407,2.378 17.78,2.005 18.153,2.378 ; 19.947,-2.378 20.32,-2.005 20.693,-2.378 ; 19.947,2.378 20.32,2.005 20.693,2.378 ; 22.487,-2.378 22.86,-2.005 23.233,-2.378 ; 22.487,2.378 22.86,2.005 23.233,2.378 ; 25.127,-2.378 25.527,-1.978 25.527,-0.662 24.865,0 25.527,0.662 25.527,1.978 25.127,2.378
  text "2" at -26.31,0.7 h0.8
  text "1" at -26.11,-1.6 h0.8
3D body "HEADER2X2SMD.stp": height 9.54, standoff -0.11, extent 12.7,-3.492 17.78,3.493
3D body "HEADER2X3SMD.stp": height 9.54, standoff -0.11, extent 17.78,-3.492 25.4,3.493
3D body "HEADER2X2SMD.stp": height 9.54, standoff -0.11, extent 0,-3.492 5.08,3.493
3D body "HEADER2X3SMD.stp": height 9.54, standoff -0.11, extent 5.08,-3.492 12.7,3.493
3D body "HEADER2X2SMD.stp": height 9.54, standoff -0.11, extent -12.7,-3.492 -7.62,3.493
3D body "HEADER2X3SMD.stp": height 9.54, standoff -0.11, extent -7.62,-3.492 0,3.493
3D body "HEADER2X3SMD.stp": height 9.54, standoff -0.11, extent -20.32,-3.492 -12.7,3.493
3D body "HEADER2X2SMD.stp": height 9.54, standoff -0.11, extent -25.4,-3.492 -20.32,3.493